# EAGLE library part LT24 (library Marvin)
Terasic LT24 Display Board Header: TSM-120-01-T-DV-P
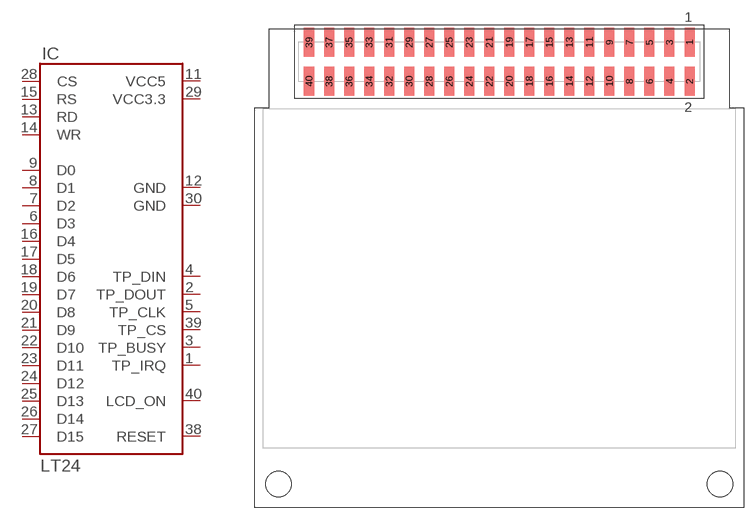
[diagram p8: symbol with the pads of LT24; footprint LT24]

Designator prefix IC

## LT24  [LT24]
1  TP_IRQ
2  TP_DOUT
3  TP_BUSY
4  TP_DIN
5  TP_CLK
6  D3
7  D2
8  D1
9  D0
11  VCC5  pwr
12  GND  pwr
13  RD
14  WR
15  RS
16  D4
17  D5
18  D6
19  D7
20  D8
21  D9
22  D10
23  D11
24  D12
25  D13
26  D14
27  D15
28  CS
29  VCC3.3  pwr
30  GND  pwr
38  RESET
39  TP_CS
40  LCD_ON

## Footprint LT24 (pad centres in mm)
smd 1.27 x 3.683: 1 24.13,2.477; 2 24.13,-2.477; 3 21.59,2.477; 4 21.59,-2.477; 5 19.05,2.477; 6 19.05,-2.477; 7 16.51,2.477; 8 16.51,-2.477; 9 13.97,2.477; 10 13.97,-2.477; 11 11.43,2.477; 12 11.43,-2.477; 13 8.89,2.477; 14 8.89,-2.477; 15 6.35,2.477; 16 6.35,-2.477; 17 3.81,2.477; 18 3.81,-2.477; 19 1.27,2.477; 20 1.27,-2.477; 21 -1.27,2.477; 22 -1.27,-2.477; 23 -3.81,2.477; 24 -3.81,-2.477; 25 -6.35,2.477; 26 -6.35,-2.477; 27 -8.89,2.477; 28 -8.89,-2.477; 29 -11.43,2.477; 30 -11.43,-2.477; 31 -13.97,2.477; 32 -13.97,-2.477; 33 -16.51,2.477; 34 -16.51,-2.477; 35 -19.05,2.477; 36 -19.05,-2.477; 37 -21.59,2.477; 38 -21.59,-2.477; 39 -24.13,2.477; 40 -24.13,-2.477
hole 3.2 at -28,-53.6
hole 3.2 at 28,-53.6